# EAGLE library part FSUSB42MUX (library rpi_cm3plus_tablet)
https://www.mouser.com/ProductDetail/ON-Semiconductor-Fairchild/FSUSB42MUX?qs=sGAEpiMZZMuCmTIBzycWfLqUvx%252BoipQGxMYBKnuhRxA%3D
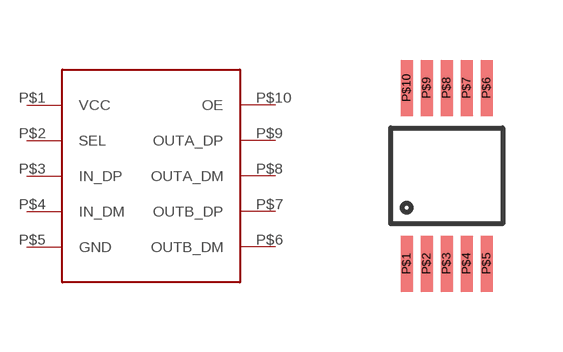
[diagram p1: symbol with the pads of MSOP-10; footprint MSOP-10]

Designator prefix -

## FSUSB42MUX  [MSOP-10]
P$1  VCC
P$2  SEL
P$3  IN_DP
P$4  IN_DM
P$5  GND
P$6  OUTB_DM
P$7  OUTB_DP
P$8  OUTA_DM
P$9  OUTA_DP
P$10  OE

## Footprint MSOP-10 (pad centres in mm)
MSOP-10
smd 0.3 x 1.4: P$1 -1,-2.2; P$2 -0.5,-2.2; P$3 0,-2.2; P$4 0.5,-2.2; P$5 1,-2.2; P$6 1,2.2; P$7 0.5,2.2; P$8 0,2.2; P$9 -0.5,2.2; P$10 -1,2.2